# Altium schematic symbol library Hrafn.SchLib: 17 symbols
Pins are listed as number, name and electrical type; pins without a type are passive.

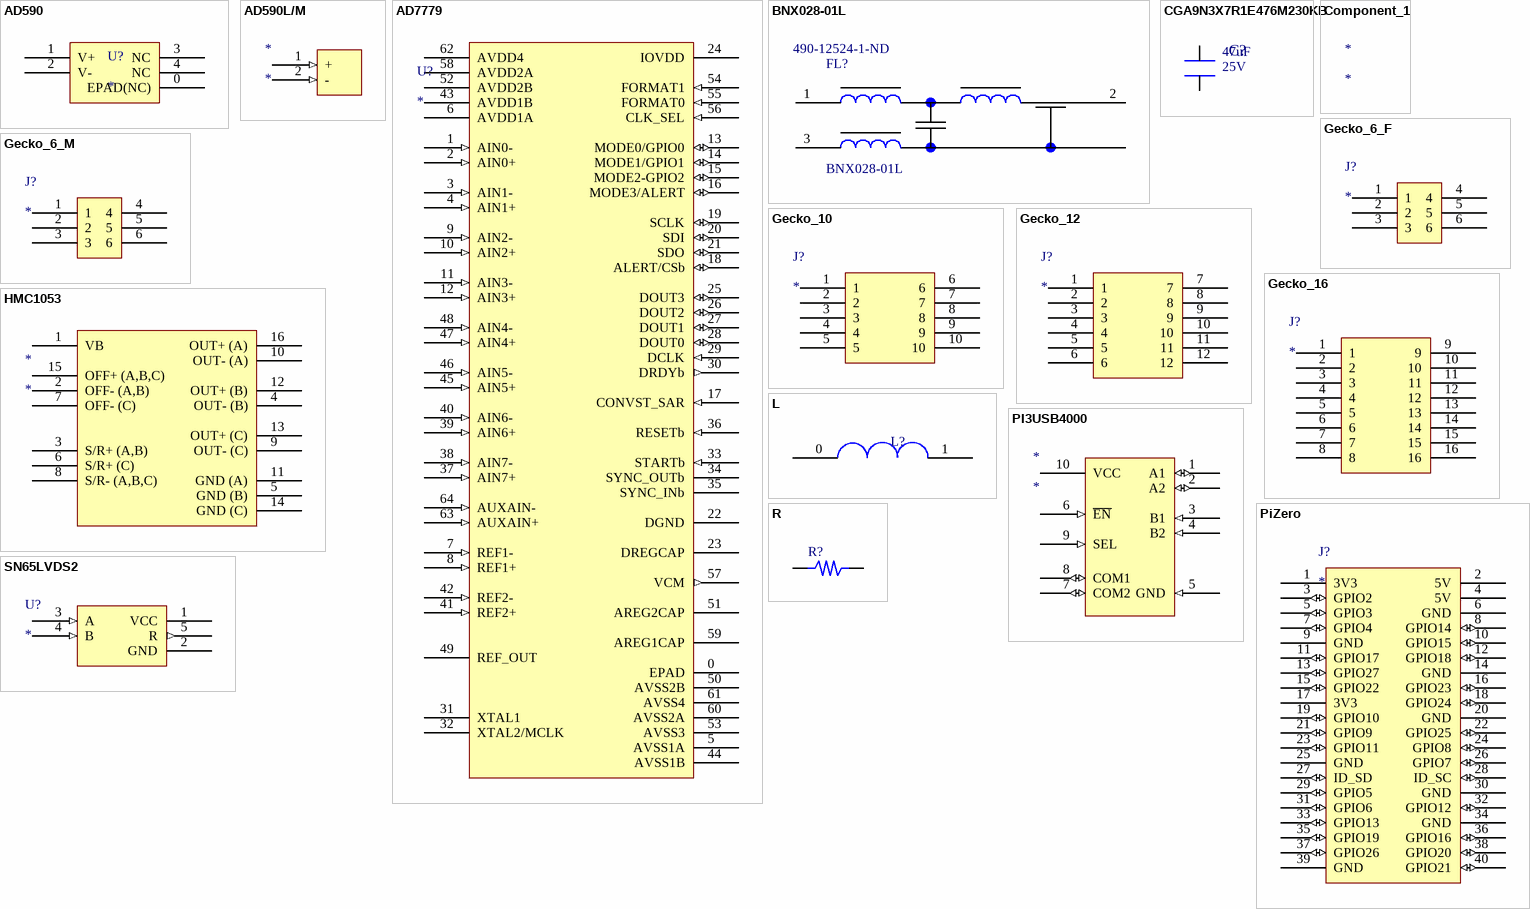
[diagram p0: symbols AD590 to SN65LVDS2]

## AD590
designator U?
pins: 0 EPAD(NC), 1 V+, 2 V-, 3 NC, 4 NC

## AD590L/M
designator *
footprint 2-FLATPAK (CFP, 4-Leads, Body 2.36x6.10mm (max), Pitch 1.27mm, IPC Medium Density)
pins: 1 + (in), 2 - (in)

## AD7779
designator U?
pins: 0 EPAD (power), 1 AIN0- (in), 2 AIN0+ (in), 3 AIN1- (in), 4 AIN1+ (in), 5 AVSS1A (power), 6 AVDD1A (power), 7 REF1- (in), 8 REF1+ (in), 9 AIN2- (in), 10 AIN2+ (in), 11 AIN3- (in), 12 AIN3+ (in), 13 MODE0/GPIO0 (io), 14 MODE1/GPIO1 (io), 15 MODE2-GPIO2 (io), 16 MODE3/ALERT (io), 17 CONVST_SAR (in), 18 ALERT/CSb (io), 19 SCLK (io), 20 SDI (io), 21 SDO (io), 22 DGND (power), 23 DREGCAP, 24 IOVDD (power), 25 DOUT3 (io), 26 DOUT2 (io), 27 DOUT1 (io), 28 DOUT0 (io), 29 DCLK (in), 30 DRDYb (out), 31 XTAL1, 32 XTAL2/MCLK, 33 STARTb (in), 34 SYNC_OUTb, 35 SYNC_INb, 36 RESETb (in), 37 AIN7+ (in), 38 AIN7- (in), 39 AIN6+ (in), 40 AIN6- (in), 41 REF2+ (in), 42 REF2- (in), 43 AVDD1B (power), 44 AVSS1B (power), 45 AIN5+ (in), 46 AIN5- (in), 47 AIN4+ (in), 48 AIN4- (in), 49 REF_OUT, 50 AVSS2B (power), 51 AREG2CAP, 52 AVDD2B (power), 53 AVSS3 (power), 54 FORMAT1 (in), 55 FORMAT0 (in), 56 CLK_SEL (in), 57 VCM (out), 58 AVDD2A (power), 59 AREG1CAP, 60 AVSS2A (power), 61 AVSS4 (power), 62 AVDD4 (power), 63 AUXAIN+ (in), 64 AUXAIN- (in)

## BNX028-01L
designator FL?  Supplier Part Number 1: 490-12524-1-ND
FILTER LC 47UF SMD; MF: Murata; Number of Channels: 2; Attenuation Value: 35dB; Current: 15A; ESD Protection: No; Voltage Rating: 16V; Frequency: 1GHz; SnapEDA_Link: https://www.snapeda.com/parts/BNX028-01L/Murata/view-part/4300575/?ref=snap; MP: BNX028-01L; DigiKey-Purchase-URL: https://snapeda.com/shop?store=DigiKey&id=4300575; Digi-Key_Part_Number: 490-12524-1-ND; Package: SMD-4 Murata; Value: *; Supplier 1: Digi-Key; Manufacturer: Murata; Manufacturer Part Number: BNX028-01L; RoHS: Yes; Category: EMI / RFI Components; Stock 1: 641; Pricing 1: 1=7.19000, 10=6.12300, 25=4.75160, 50=4.52540, 100=4.25920 (USD); Mount: Surface Mount; Case/Package: SMD/SMT; Min Operating Temperature: -40°C; Max Operating Temperature: 105°C; Package Quantity: 400; Packaging: Tape and Reel; Max Current Rating: 15A; Termination: SMD/SMT; Voltage Rating (DC): 16V; Current Rating: 15A; Circuit Type: Filter; Insertion Loss: 35dB; Capacitance: 47uF; Length: 12.1mm; Height: 3.5mm; Width: 9.1mm; Depth: 9.1mm; REACH SVHC: No SVHC; ComponentLink1URL: http://www.mouser.com/ds/2/281/ENFH0008-558688.pdf?src-supplier=Mouser; ComponentLink1Description: http://www.mouser.com/ds/2/281/ENFH0008-558688.pdf?src-supplier=Mouser; ComponentLink2URL: http://www.farnell.com/datasheets/1902097.pdf?src-supplier=Farnell; ComponentLink2Description: http://www.farnell.com/datasheets/1902097.pdf?src-supplier=Farnell; ComponentLink3URL: http://www.farnell.com/datasheets/1902097.pdf?src-supplier=Element14; ComponentLink3Description: http://www.farnell.com/datasheets/1902097.pdf?src-supplier=Element14; ComponentLink4URL: http://www.murata.com/en-us/products/productdata/8796777775134/ENFH0008.pdf?src-supplier=Digi-Key; ComponentLink4Description: http://www.murata.com/en-us/products/productdata/8796777775134/ENFH0008.pdf?src-supplier=Digi-Key; ComponentLink5URL: https://www.murata.com/en-us/products/productdata/8796777775134/ENFH0008.pdf?src-supplier=Digi-Key; ComponentLink5Description: https://www.murata.com/en-us/products/productdata/8796777775134/ENFH0008.pdf?src-supplier=Digi-Key; ComponentLink6URL: http://www.farnell.com/datasheets/1902097.pdf?src-supplier=Newark; ComponentLink6Description: http://www.farnell.com/datasheets/1902097.pdf?src-supplier=Newark
footprint FIL_BNX028-01L
pins: 1 B, 2 CB, 3 PSG, 4 CG, 5 CG, 6 CG

## CGA9N3X7R1E476M230KB
designator C?  Capacitance: 47uF  Voltage Rating: 25V  (hidden comment: *)
Cap Ceramic 47uF 25V X7R 20% Pad SMD 2220 125C Automotive T/R; Manufacturer: TDK; Manufacturer Part Number: CGA9N3X7R1E476M230KB; Supplier 1: Digi-Key; RoHS: No; Category: Ceramic Capacitors; Stock 1: 533; Pricing 1: 1=4.53000, 10=4.07500, 100=3.07910 (USD); Mount: Surface Mount; Case/Package: 2220; Case Code (Imperial): 2220; Case Code (Metric): 5750; Min Operating Temperature: -55°C; Max Operating Temperature: 125°C; Packaging: Tape and Reel; Ratings: AEC-Q200; ComponentLink1URL: https://product.tdk.com/info/en/catalog/datasheets/mlcc_automotive_general_en.pdf?src-supplier=Digi-Key; ComponentLink1Description: https://product.tdk.com/info/en/catalog/datasheets/mlcc_automotive_general_en.pdf?src-supplier=Digi-Key; ComponentLink2URL: https://product.tdk.com/info/en/catalog/spec/mlccspec_automotive_general_midvoltage_en.pdf?src-supplier=Digi-Key; ComponentLink2Description: https://product.tdk.com/info/en/catalog/spec/mlccspec_automotive_general_midvoltage_en.pdf?src-supplier=Digi-Key; Tolerance: 20%; Supplier Part Number 1: 445-174773-1-ND
footprint CAPC5750X28M (Chip Capacitor, 2-Leads, Body 5.70x5.00mm, IPC Low Density)
pins: 1, 2

## Component_1
designator *

## Gecko_6_F
designator J?
pins: 1, 2, 3, 4, 5, 6

## Gecko_6_M
designator J?
pins: 1, 2, 3, 4, 5, 6

## Gecko_10
designator J?
pins: 1, 2, 3, 4, 5, 6, 7, 8, 9, 10

## Gecko_12
designator J?
pins: 1, 2, 3, 4, 5, 6, 7, 8, 9, 10, 11, 12

## Gecko_16
designator J?
pins: 1, 2, 3, 4, 5, 6, 7, 8, 9, 10, 11, 12, 13, 14, 15, 16

## HMC1053
designator *
pins: 1 VB, 2 OFF- (A,B), 3 S/R+ (A,B), 4 OUT- (B), 5 GND (B) (power), 6 S/R+ (C), 7 OFF- (C), 8 S/R- (A,B,C), 9 OUT- (C), 10 OUT- (A) (power), 11 GND (A) (power), 12 OUT+ (B), 13 OUT+ (C), 14 GND (C), 15 OFF+ (A,B,C), 16 OUT+ (A)

## L
designator L?
pins: 0, 1

## PI3USB4000
designator *
pins: 1 A1 (io), 2 A2 (io), 3 B1 (in), 4 B2 (in), 5 GND (in), 6 ~{EN} (in), 7 COM2 (io), 8 COM1 (io), 9 SEL (in), 10 VCC (power)

## PiZero
designator J?
footprint DIP40
pins: 1 3V3 (power), 2 5V (power), 3 GPIO2 (io), 4 5V (power), 5 GPIO3 (io), 6 GND (power), 7 GPIO4 (io), 8 GPIO14 (io), 9 GND (power), 10 GPIO15 (io), 11 GPIO17 (io), 12 GPIO18 (io), 13 GPIO27 (io), 14 GND (power), 15 GPIO22 (io), 16 GPIO23 (io), 17 3V3 (power), 18 GPIO24 (io), 19 GPIO10 (io), 20 GND (power), 21 GPIO9 (io), 22 GPIO25 (io), 23 GPIO11 (io), 24 GPIO8 (io), 25 GND (power), 26 GPIO7 (io), 27 ID_SD (io), 28 ID_SC (io), 29 GPIO5 (io), 30 GND (power), 31 GPIO6 (io), 32 GPIO12 (io), 33 GPIO13 (io), 34 GND (power), 35 GPIO19 (io), 36 GPIO16 (io), 37 GPIO26 (io), 38 GPIO20 (io), 39 GND (power), 40 GPIO21 (io)

## R
designator R?
pins: 0, 1

## SN65LVDS2
designator U?
pins: 1 VCC (power), 2 GND (power), 3 A (in), 4 B (in), 5 R (out)